# Altium footprint library PIF_LCD2004.PcbLib: 1 footprints
Each footprint in its own frame and in the unit in brackets; x right, y up, seen from the top. Pads: shape width x height; smd on the part's side, far side on the other; paste and mask are expansions set on the pad; w line width, h text height; cw(c..) or ccw(c..) is an arc to the next point about the centre after c.
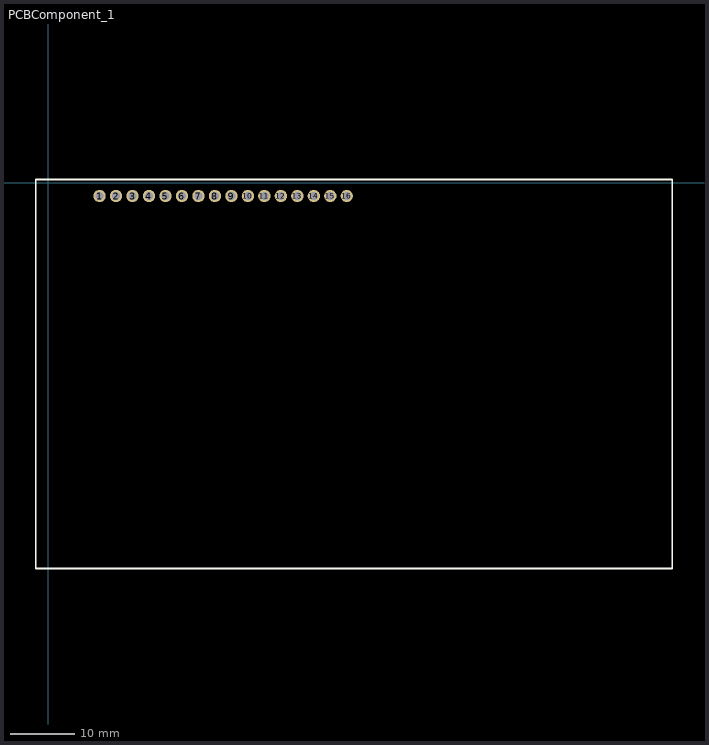
[diagram p0: the footprint, top view; thin cyan lines are the x and y axes]

## PCBComponent_1 [mm]
pads (16):
  round 1.9 hole 1.2: 1(7.903,-2.036) 2(10.443,-2.036) 3(12.983,-2.036) 4(15.523,-2.036) 5(18.063,-2.036) 6(20.603,-2.036) 7(23.143,-2.036) 8(25.683,-2.036) 9(28.223,-2.036) 10(30.763,-2.036) 11(33.303,-2.036) 12(35.843,-2.036) 13(38.383,-2.036) 14(40.923,-2.036) 15(43.463,-2.036) 16(46.003,-2.036)
Top Overlay:
  lines w0.254: -1.905,0.508 96.144,0.508 96.151,0.501 96.151,-59.436 96.15,-59.434 -1.918,-59.434 -1.905,-59.421 -1.905,0.509
3D body "LCD Display 2004.stp": height 11.24, standoff -2.41, extent -1.918,-59.436 96.152,0.508